# Altium schematic symbol library Resistor.SchLib: 14 symbols
Pins are listed as number, name and electrical type; pins without a type are passive.

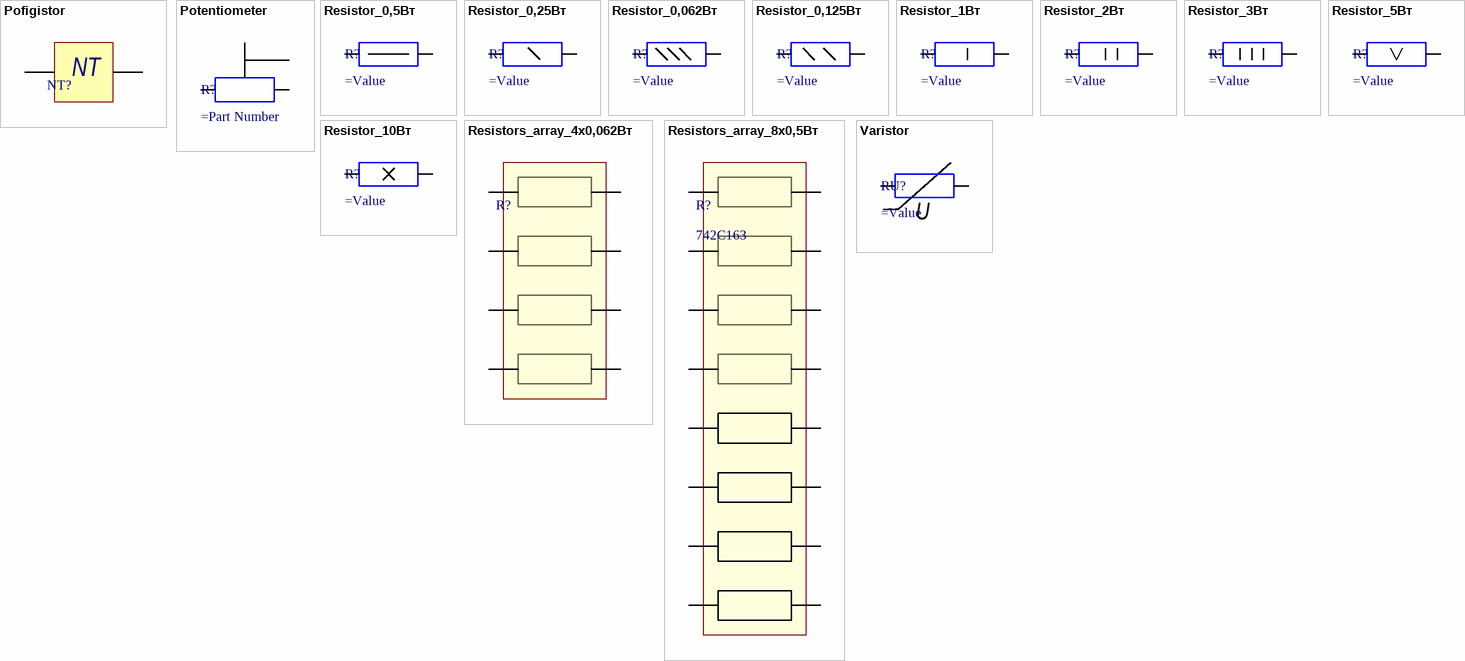
[diagram p0: symbols Pofigistor to Varistor]

## Pofigistor
designator NT?  (value not drawn)  (net tie, no BOM)
pins: 1, 2
text: NT

## Potentiometer
designator R?
Potentiometer
pins: 1, 2, 3

## Resistor_0,5Вт
designator R?
Резистор
pins: 1, 2

## Resistor_0,25Вт
designator R?
Резистор
pins: 1, 2

## Resistor_0,062Вт
designator R?
Резистор
pins: 1, 2

## Resistor_0,125Вт
designator R?
Резистор
pins: 1, 2

## Resistor_1Вт
designator R?
Резистор
pins: 1, 2 5

## Resistor_2Вт
designator R?
Резистор
pins: 1, 2 5

## Resistor_3Вт
designator R?
Резистор
pins: 1, 2 5

## Resistor_5Вт
designator R?
Резистор
pins: 1, 2 5

## Resistor_10Вт
designator R?
Резистор
pins: 1, 2 5

## Resistors_array_4x0,062Вт
designator R?
Резисторная сборка
pins: 1, 2, 3, 4, 5, 6, 7, 8

## Resistors_array_8x0,5Вт
designator R?, comment 742C163
Резисторная сборка; Name: *; Value: 742C163
footprint 8xR1206
pins: 1, 2, 3, 4, 5, 6, 7, 8, 9, 10, 11, 12, 13, 14, 15, 16

## Varistor
designator RU?
Резистор
pins: 1, 2 5
text: U